# Altium schematic symbol library MCU GOST.SchLib: 19 symbols
Pins are listed as number, name and electrical type; pins without a type are passive.

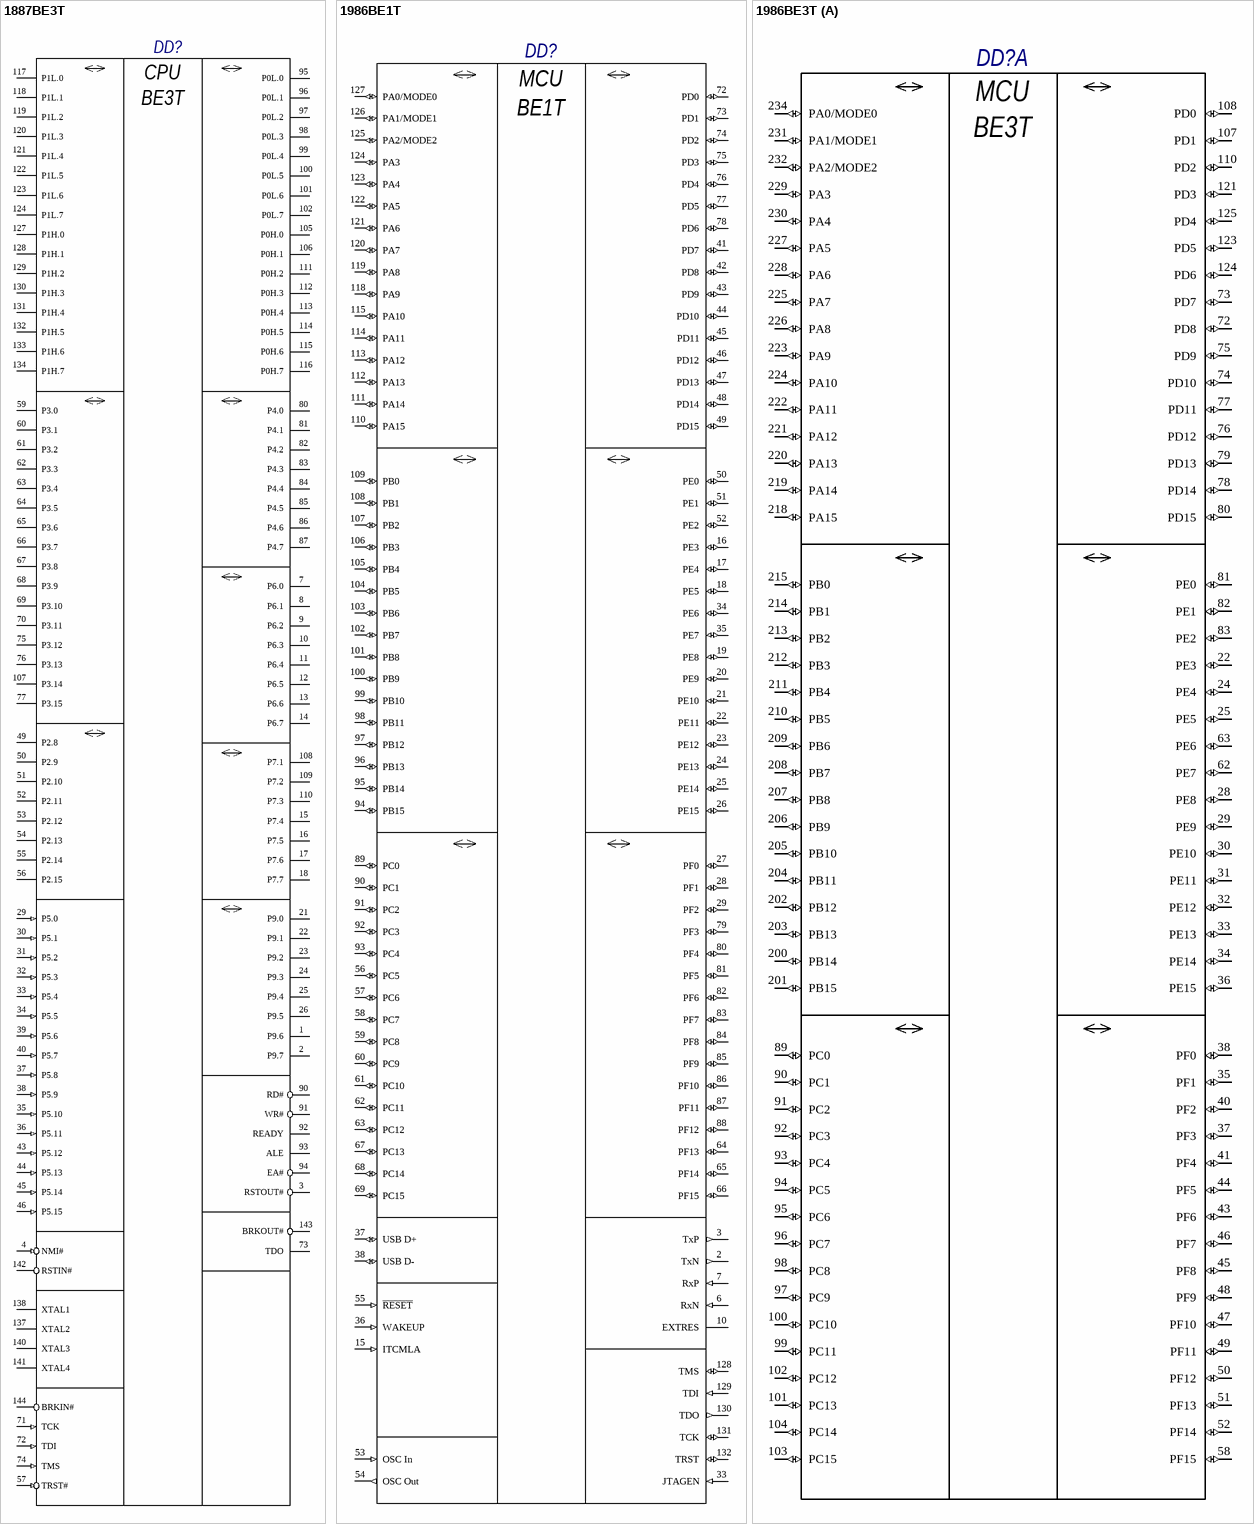
[diagram p0: symbols 1887ВЕ3Т to 1986ВЕ3Т]

## 1887ВЕ3Т
designator DD?
Type: Микросхема; Publisher: Viktor Klishin
pins: 1 P9.6 (hiz), 2 P9.7 (hiz), 3 RSTOUT# (hiz), 4 NMI# (in), 5 0V1 (power) hidden, 6 VCC1 (power) hidden, 7 P6.0 (hiz), 8 P6.1 (hiz), 9 P6.2 (hiz), 10 P6.3 (hiz), 11 P6.4 (hiz), 12 P6.5 (hiz), 13 P6.6 (hiz), 14 P6.7 (hiz), 15 P7.4 (hiz), 16 P7.5 (hiz), 17 P7.6 (hiz), 18 P7.7 (hiz), 19 0V1 (power) hidden, 20 VCC1 (power) hidden, 21 P9.0 (hiz), 22 P9.1 (hiz), 23 P9.2 (hiz), 24 P9.3 (hiz), 25 P9.4 (hiz), 26 P9.5 (hiz), 27 0V1 (power) hidden, 28 VCC1 (power) hidden, 29 P5.0 (in), 30 P5.1 (in), 31 P5.2 (in), 32 P5.3 (in), 33 P5.4 (in), 34 P5.5 (in), 35 P5.10 (in), 36 P5.11 (in), 37 P5.8 (in), 38 P5.9 (in), 39 P5.6 (in), 40 P5.7 (in), 41 VCC3 (power) hidden, 42 0V3 (power) hidden, 43 P5.12 (in), 44 P5.13 (in), 45 P5.14 (in), 46 P5.15 (in), 47 0V2 (power) hidden, 48 VCC2 (power) hidden, 49 P2.8 (hiz), 50 P2.9 (hiz), 51 P2.10 (hiz), 52 P2.11 (hiz), 53 P2.12 (hiz), 54 P2.13 (hiz), 55 P2.14 (hiz), 56 P2.15 (hiz), 57 TRST# (in), 58 VCC1 (power) hidden, 59 P3.0 (hiz), 60 P3.1 (hiz), 61 P3.2 (hiz), 62 P3.3 (hiz), 63 P3.4 (hiz), 64 P3.5 (hiz), 65 P3.6 (hiz), 66 P3.7 (hiz), 67 P3.8 (hiz), 68 P3.9 (hiz), 69 P3.10 (hiz), 70 P3.11 (hiz), 71 TCK (in), 72 TDI (in), 73 TDO (hiz), 74 TMS (in), 75 P3.12 (hiz), 76 P3.13 (hiz), 77 P3.15 (hiz), 78 VCC2 (power) hidden, 79 0V2 (power) hidden, 80 P4.0 (hiz), 81 P4.1 (hiz), 82 P4.2 (hiz), 83 P4.3 (hiz), 84 P4.4 (hiz), 85 P4.5 (hiz), 86 P4.6 (hiz), 87 P4.7 (hiz), 88 VCC1 (power) hidden, 89 0V1 (power) hidden, 90 RD# (hiz), 91 WR# (hiz), 92 READY (hiz), 93 ALE (hiz), 94 EA# (hiz), 95 P0L.0 (hiz), 96 P0L.1 (hiz), 97 P0L.2 (hiz), 98 P0L.3 (hiz), 99 P0L.4 (hiz), 100 P0L.5 (hiz), 101 P0L.6 (hiz), 102 P0L.7 (hiz), 103 VCC1 (power) hidden, 104 0V1 (power) hidden, 105 P0H.0 (hiz), 106 P0H.1 (hiz), 107 P3.14 (hiz), 108 P7.1 (hiz), 109 P7.2 (hiz), 110 P7.3 (hiz), 111 P0H.2 (hiz), 112 P0H.3 (hiz), 113 P0H.4 (hiz), 114 P0H.5 (hiz), 115 P0H.6 (hiz), 116 P0H.7 (hiz), 117 P1L.0 (hiz), 118 P1L.1 (hiz), 119 P1L.2 (hiz), 120 P1L.3 (hiz), 121 P1L.4 (hiz), 122 P1L.5 (hiz), 123 P1L.6 (hiz), 124 P1L.7 (hiz), 125 VCC1 (power) hidden, 126 0V1 (power) hidden, 127 P1H.0 (hiz), 128 P1H.1 (hiz), 129 P1H.2 (hiz), 130 P1H.3 (hiz), 131 P1H.4 (hiz), 132 P1H.5 (hiz), 133 P1H.6 (hiz), 134 P1H.7 (hiz), 135 VCC2 (power) hidden, 136 0V2 (power) hidden, 137 XTAL2 (hiz), 138 XTAL1 (hiz), 139 0V2 (power) hidden, 140 XTAL3 (hiz), 141 XTAL4 (hiz), 142 RSTIN# (hiz), 143 BRKOUT# (hiz), 144 BRKIN# (hiz)
text: CPU; ВЕ3Т

## 1986ВЕ1Т
designator DD?
32-разрядный RISC-микроконтроллер для авиационных применений; Type: Микросхема; Published: 06.12.2013; Publisher: Andrew Danich
pins: 1 GND0A (power) hidden to Общ "Общий PHY", 2 TxN (out) "PHY Ethernet", 3 TxP (out) "PHY Ethernet", 4 GND1A (power) hidden to Общ "Общий PHY", 5 Vcc1A (power) hidden "Аналоговое питание PHY +3.3В", 6 RxN (in) "PHY Ethernet", 7 RxP (in) "PHY Ethernet", 8 Vcc2A (power) hidden "Аналоговое питание PHY +3.3В", 9 GND2A (power) hidden to Общ "Общий PHY", 10 EXTRES "PHY Ethernet", 11 GND3A (power) hidden to Общ "Общий PHY", 12 Vcc3A (power) hidden "Аналоговое питание PHY +3.3В", 13 GND4A (power) hidden to Общ "Общий PHY", 14 Vcc4A (power) hidden "Аналоговое питание PHY +3.3В", 15 ITCMLA (in), 16 PE3 (io), 17 PE4 (io), 18 PE5 (io), 19 PE8 (io), 20 PE9 (io), 21 PE10 (io), 22 PE11 (io), 23 PE12 (io), 24 PE13 (io), 25 PE14 (io), 26 PE15 (io), 27 PF0 (io), 28 PF1 (io), 29 PF2 (io), 30 GND (power) hidden to Общ "Общий", 31 Vcc (power) hidden to +3.3В "Питание +3.3В", 32 BVcc (power) hidden to +3.3В "Батарейное Питание", 33 JTAGEN (in) "JTAG", 34 PE6 (io), 35 PE7 (io), 36 WAKEUP (in), 37 USB D+ (io) "USB", 38 USB D- (io) "USB", 39 AGND (power) hidden to Общ "Общий АЦП", 40 AVcc (power) hidden to +3.3В "Аналоговое питание АЦП и ЦАП", 41 PD7 (io), 42 PD8 (io), 43 PD9 (io), 44 PD10 (io), 45 PD11 (io), 46 PD12 (io), 47 PD13 (io), 48 PD14 (io), 49 PD15 (io), 50 PE0 (io), 51 PE1 (io), 52 PE2 (io), 53 OSC In (in), 54 OSC Out (out), 55 ~{RESET} (in), 56 PC5 (io), 57 PC6 (io), 58 PC7 (io), 59 PC8 (io), 60 PC9 (io), 61 PC10 (io), 62 PC11 (io), 63 PC12 (io), 64 PF13 (io), 65 PF14 (io), 66 PF15 (io), 67 PC13 (io), 68 PC14 (io), 69 PC15 (io), 70 GND (power) hidden to Общ "Общий", 71 Vcc (power) hidden to +3.3В "Питание +3.3В", 72 PD0 (io), 73 PD1 (io), 74 PD2 (io), 75 PD3 (io), 76 PD4 (io), 77 PD5 (io), 78 PD6 (io), 79 PF3 (io), 80 PF4 (io), 81 PF5 (io), 82 PF6 (io), 83 PF7 (io), 84 PF8 (io), 85 PF9 (io), 86 PF10 (io), 87 PF11 (io), 88 PF12 (io), 89 PC0 (io), 90 PC1 (io), 91 PC2 (io), 92 PC3 (io), 93 PC4 (io), 94 PB15 (io), 95 PB14 (io), 96 PB13 (io), 97 PB12 (io), 98 PB11 (io), 99 PB10 (io), 100 PB9 (io), 101 PB8 (io), 102 PB7 (io), 103 PB6 (io), 104 PB5 (io), 105 PB4 (io), 106 PB3 (io), 107 PB2 (io), 108 PB1 (io), 109 PB0 (io), 110 PA15 (io), 111 PA14 (io), 112 PA13 (io), 113 PA12 (io), 114 PA11 (io), 115 PA10 (io), 116 GND (power) hidden to Общ "Общий", 117 Vcc (power) hidden to +3.3В "Питание +3.3В", 118 PA9 (io), 119 PA8 (io), 120 PA7 (io), 121 PA6 (io), 122 PA5 (io), 123 PA4 (io), 124 PA3 (io), 125 PA2/MODE2 (io), 126 PA1/MODE1 (io), 127 PA0/MODE0 (io), 128 TMS (io) "JTAG", 129 TDI (in) "JTAG", 130 TDO (out) "JTAG", 131 TCK (io) "JTAG", 132 TRST (io) "JTAG"
text: MCU; ВЕ1Т

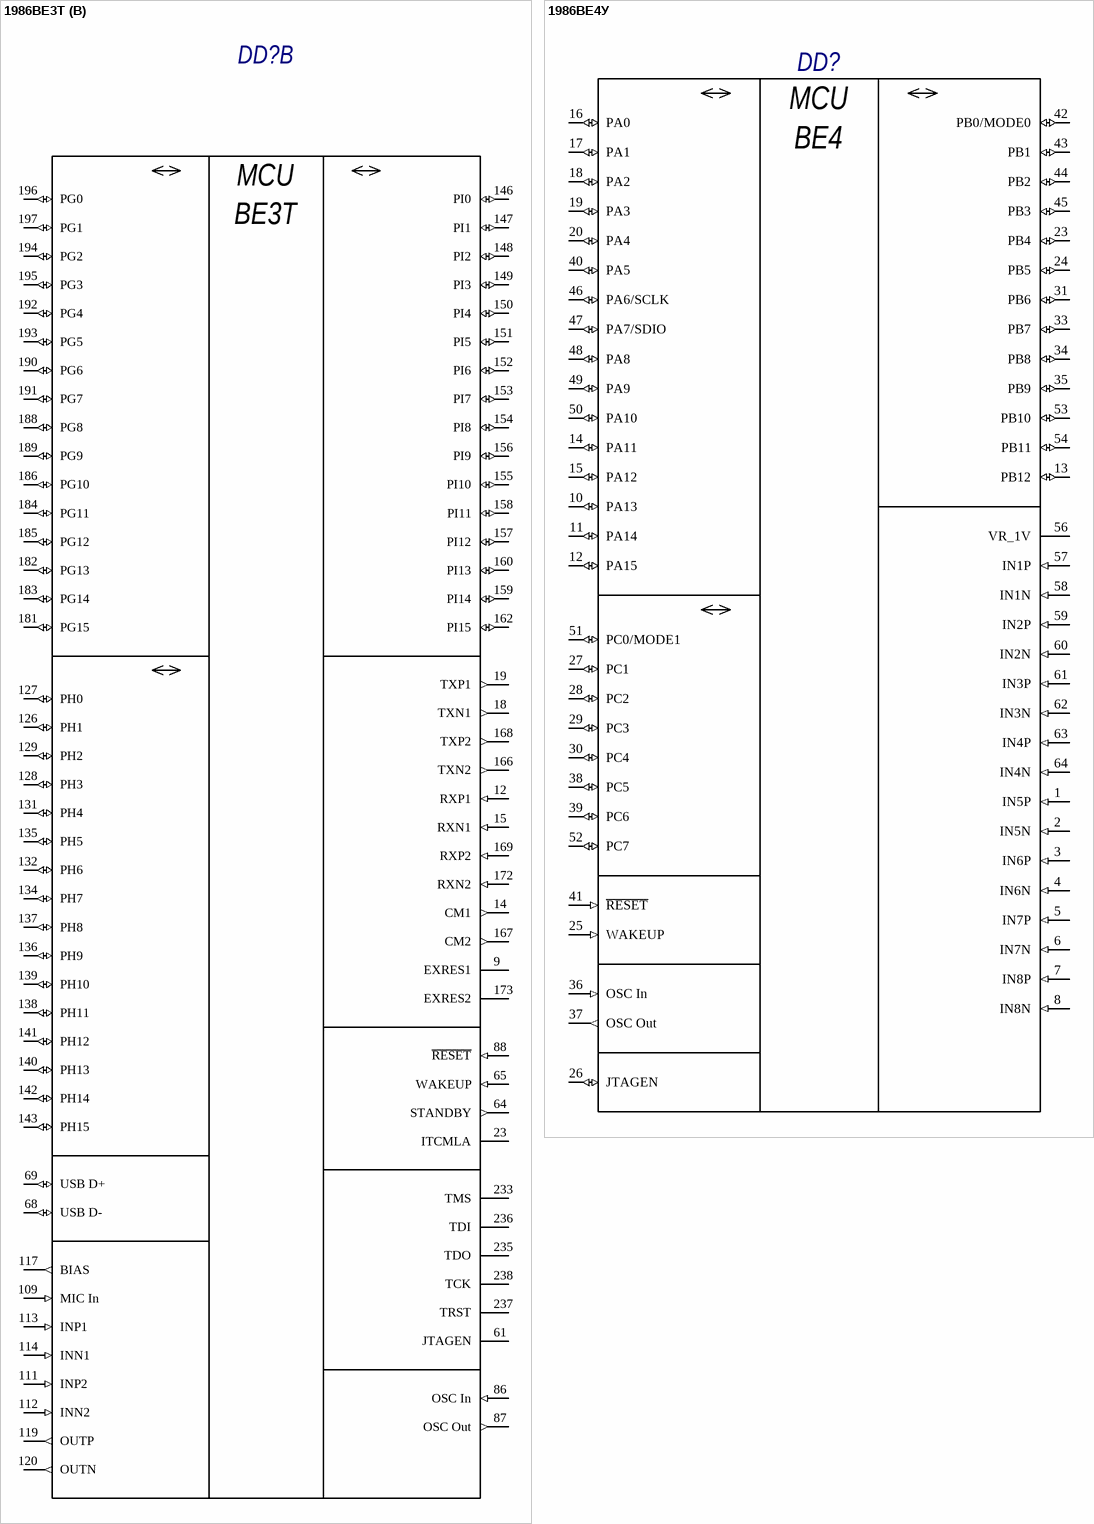
[diagram p1: symbols 1986ВЕ3Т to 1986ВЕ4У]

## 1986ВЕ3Т
designator DD?
32-разрядный RISC-микроконтроллер; Type: Микросхема; Published: 15.10.2014; Publisher: Andrew Danich
part A pins: 1 GND (power) hidden to Общ "Общий", 3 Vcc1A (power) hidden "Аналоговое питание PHY1", 4 GND0A (power) hidden to Общ "Общий PHY1", 5 GND1A (power) hidden to Общ "Общий PHY1", 7 Vcc2A (power) hidden "Аналоговое питание PHY1", 8 Vcc3A (power) hidden "Аналоговое питание PHY1", 11 GND2A (power) hidden to Общ "Общий PHY1", 16 GND3A (power) hidden to Общ "Общий PHY1", 17 Vcc4A (power) hidden "Аналоговое питание PHY1", 21 GND4A (power) hidden to Общ "Общий PHY1", 22 PE3 (io), 24 PE4 (io), 25 PE5 (io), 26 GND (power) hidden to Общ "Общий", 27 Vcc (power) hidden to +3.3В "Питание +3.3В", 28 PE8 (io), 29 PE9 (io), 30 PE10 (io), 31 PE11 (io), 32 PE12 (io), 33 PE13 (io), 34 PE14 (io), 35 PF1 (io), 36 PE15 (io), 37 PF3 (io), 38 PF0 (io), 39 GND (power) hidden to Общ "Общий", 40 PF2 (io), 41 PF4 (io), 42 Vcc (power) hidden to +3.3В "Питание +3.3В", 43 PF6 (io), 44 PF5 (io), 45 PF8 (io), 46 PF7 (io), 47 PF10 (io), 48 PF9 (io), 49 PF11 (io), 50 PF12 (io), 51 PF13 (io), 52 PF14 (io), 53 GND (power) hidden to Общ "Общий", 57 Vcc (power) hidden to +3.3В "Питание +3.3В", 58 PF15 (io), 59 BVcc (power) hidden to +3.3В "Батарейное Питание", 62 PE7 (io), 63 PE6 (io), 70 AVcc (power) hidden to +3.3В "Аналоговое питание АЦП и ЦАП", 71 AGND (power) hidden to Общ "Общий АЦП, ЦАП", 72 PD8 (io), 73 PD7 (io), 74 PD10 (io), 75 PD9 (io), 76 PD12 (io), 77 PD11 (io), 78 PD14 (io), 79 PD13 (io), 80 PD15 (io), 81 PE0 (io), 82 PE1 (io), 83 PE2 (io), 84 GND (power) hidden to Общ "Общий", 85 Vcc (power) hidden to +3.3В "Питание +3.3В", 89 PC0 (io), 90 PC1 (io), 91 PC2 (io), 92 PC3 (io), 93 PC4 (io), 94 PC5 (io), 95 PC6 (io), 96 PC7 (io), 97 PC9 (io), 98 PC8 (io), 99 PC11 (io), 100 PC10 (io), 101 PC13 (io), 102 PC12 (io), 103 PC15 (io), 104 PC14 (io), 105 Vcc (power) hidden to +3.3В "Питание +3.3В", 106 GND (power) hidden to Общ "Общий", 107 PD1 (io), 108 PD0 (io), 110 PD2 (io), 116 AGND1 (power) hidden to Общ "Общий аудиокодека", 118 AVcc1 (power) hidden to +3.3В "Аналоговое питание аудиокодека", 121 PD3 (io), 123 PD5 (io), 124 PD6 (io), 125 PD4 (io), 130 GND (power) hidden to Общ "Общий", 133 Vcc (power) hidden to +3.3В "Питание +3.3В", 144 GND (power) hidden to Общ "Общий", 145 Vcc (power) hidden to +3.3В "Питание +3.3В", 161 GND (power) hidden to Общ "Общий", 163 GND0B (power) hidden to Общ "Общий PHY2", 164 Vcc (power) hidden to +3.3В "Питание +3.3В", 165 GND1B (power) hidden to Общ "Общий PHY2", 170 Vcc1B (power) hidden "Аналоговое питание PHY2", 171 Vcc2B (power) hidden "Аналоговое питание PHY2", 175 Vcc3B (power) hidden "Аналоговое питание PHY2", 176 GND2B (power) hidden to Общ "Общий PHY2", 177 GND3B (power) hidden to Общ "Общий PHY2", 178 GND4B (power) hidden to Общ "Общий PHY2", 179 Vcc4B (power) hidden "Аналоговое питание PHY2", 198 Vcc (power) hidden to +3.3В "Питание +3.3В", 199 GND (power) hidden to Общ "Общий", 200 PB14 (io), 201 PB15 (io), 202 PB12 (io), 203 PB13 (io), 204 PB11 (io), 205 PB10 (io), 206 PB9 (io), 207 PB8 (io), 208 PB7 (io), 209 PB6 (io), 210 PB5 (io), 211 PB4 (io), 212 PB3 (io), 213 PB2 (io), 214 PB1 (io), 215 PB0 (io), 216 GND (power) hidden to Общ "Общий", 217 Vcc (power) hidden to +3.3В "Питание +3.3В", 218 PA15 (io), 219 PA14 (io), 220 PA13 (io), 221 PA12 (io), 222 PA11 (io), 223 PA9 (io), 224 PA10 (io), 225 PA7 (io), 226 PA8 (io), 227 PA5 (io), 228 PA6 (io), 229 PA3 (io), 230 PA4 (io), 231 PA1/MODE1 (io), 232 PA2/MODE2 (io), 234 PA0/MODE0 (io), 239 Vcc (power) hidden to +3.3В "Питание +3.3В", 240 GND (power) hidden to Общ "Общий"
part B pins: 9 EXRES1 "PHY Ethernet", 12 RXP1 (in) "PHY Ethernet", 14 CM1 (out) "PHY Ethernet", 15 RXN1 (in) "PHY Ethernet", 18 TXN1 (out) "PHY Ethernet", 19 TXP1 (out) "PHY Ethernet", 23 ITCMLA, 61 JTAGEN "JTAG", 64 STANDBY (out), 65 WAKEUP (in), 68 USB D- (io) "USB", 69 USB D+ (io) "USB", 86 OSC In (in), 87 OSC Out (out), 88 ~{RESET} (in), 109 MIC In (in) "Audio", 111 INP2 (in) "Audio", 112 INN2 (in) "Audio", 113 INP1 (in) "Audio", 114 INN1 (in) "Audio", 117 BIAS (out) "Audio", 119 OUTP (out) "Audio", 120 OUTN (out) "Audio", 126 PH1 (io), 127 PH0 (io), 128 PH3 (io), 129 PH2 (io), 131 PH4 (io), 132 PH6 (io), 134 PH7 (io), 135 PH5 (io), 136 PH9 (io), 137 PH8 (io), 138 PH11 (io), 139 PH10 (io), 140 PH13 (io), 141 PH12 (io), 142 PH14 (io), 143 PH15 (io), 146 PI0 (io), 147 PI1 (io), 148 PI2 (io), 149 PI3 (io), 150 PI4 (io), 151 PI5 (io), 152 PI6 (io), 153 PI7 (io), 154 PI8 (io), 155 PI10 (io), 156 PI9 (io), 157 PI12 (io), 158 PI11 (io), 159 PI14 (io), 160 PI13 (io), 162 PI15 (io), 166 TXN2 (out) "PHY Ethernet", 167 CM2 (out) "PHY Ethernet", 168 TXP2 (out) "PHY Ethernet", 169 RXP2 (in) "PHY Ethernet", 172 RXN2 (in) "PHY Ethernet", 173 EXRES2 "PHY Ethernet", 181 PG15 (io), 182 PG13 (io), 183 PG14 (io), 184 PG11 (io), 185 PG12 (io), 186 PG10 (io), 188 PG8 (io), 189 PG9 (io), 190 PG6 (io), 191 PG7 (io), 192 PG4 (io), 193 PG5 (io), 194 PG2 (io), 195 PG3 (io), 196 PG0 (io), 197 PG1 (io), 233 TMS "JTAG", 235 TDO "JTAG", 236 TDI "JTAG", 237 TRST "JTAG", 238 TCK "JTAG"
part A text: MCU; ВЕ3Т
part B text: MCU; ВЕ3Т

## 1986ВЕ4У
designator DD?
Type: Микросхема; Published: 14.01.2015; Publisher: Andrew Danich
pins: 1 IN5P (in), 2 IN5N (in), 3 IN6P (in), 4 IN6N (in), 5 IN7P (in), 6 IN7N (in), 7 IN8P (in), 8 IN8N (in), 9 AVcc (power) hidden to +3.3В "Аналоговое питание АЦП и ЦАП", 10 PA13 (io), 11 PA14 (io), 12 PA15 (io), 13 PB12 (io), 14 PA11 (io), 15 PA12 (io), 16 PA0 (io), 17 PA1 (io), 18 PA2 (io), 19 PA3 (io), 20 PA4 (io), 21 Vcc (power) hidden to +3.3В "Питание", 22 BVcc (power) hidden to +3.3В "Батарейное Питание", 23 PB4 (io), 24 PB5 (io), 25 WAKEUP (in), 26 JTAGEN (io), 27 PC1 (io), 28 PC2 (io), 29 PC3 (io), 30 PC4 (io), 31 PB6 (io), 32 GND (power) hidden to Общ "Общий", 33 PB7 (io), 34 PB8 (io), 35 PB9 (io), 36 OSC In (in), 37 OSC Out (out), 38 PC5 (io), 39 PC6 (io), 40 PA5 (io), 41 ~{RESET} (in), 42 PB0/MODE0 (io), 43 PB1 (io), 44 PB2 (io), 45 PB3 (io), 46 PA6/SCLK (io), 47 PA7/SDIO (io), 48 PA8 (io), 49 PA9 (io), 50 PA10 (io), 51 PC0/MODE1 (io), 52 PC7 (io), 53 PB10 (io), 54 PB11 (io), 55 AGND (power) hidden to Общ "Общий АЦП", 56 VR_1V, 57 IN1P (in), 58 IN1N (in), 59 IN2P (in), 60 IN2N (in), 61 IN3P (in), 62 IN3N (in), 63 IN4P (in), 64 IN4N (in)
text: MCU; ВЕ4

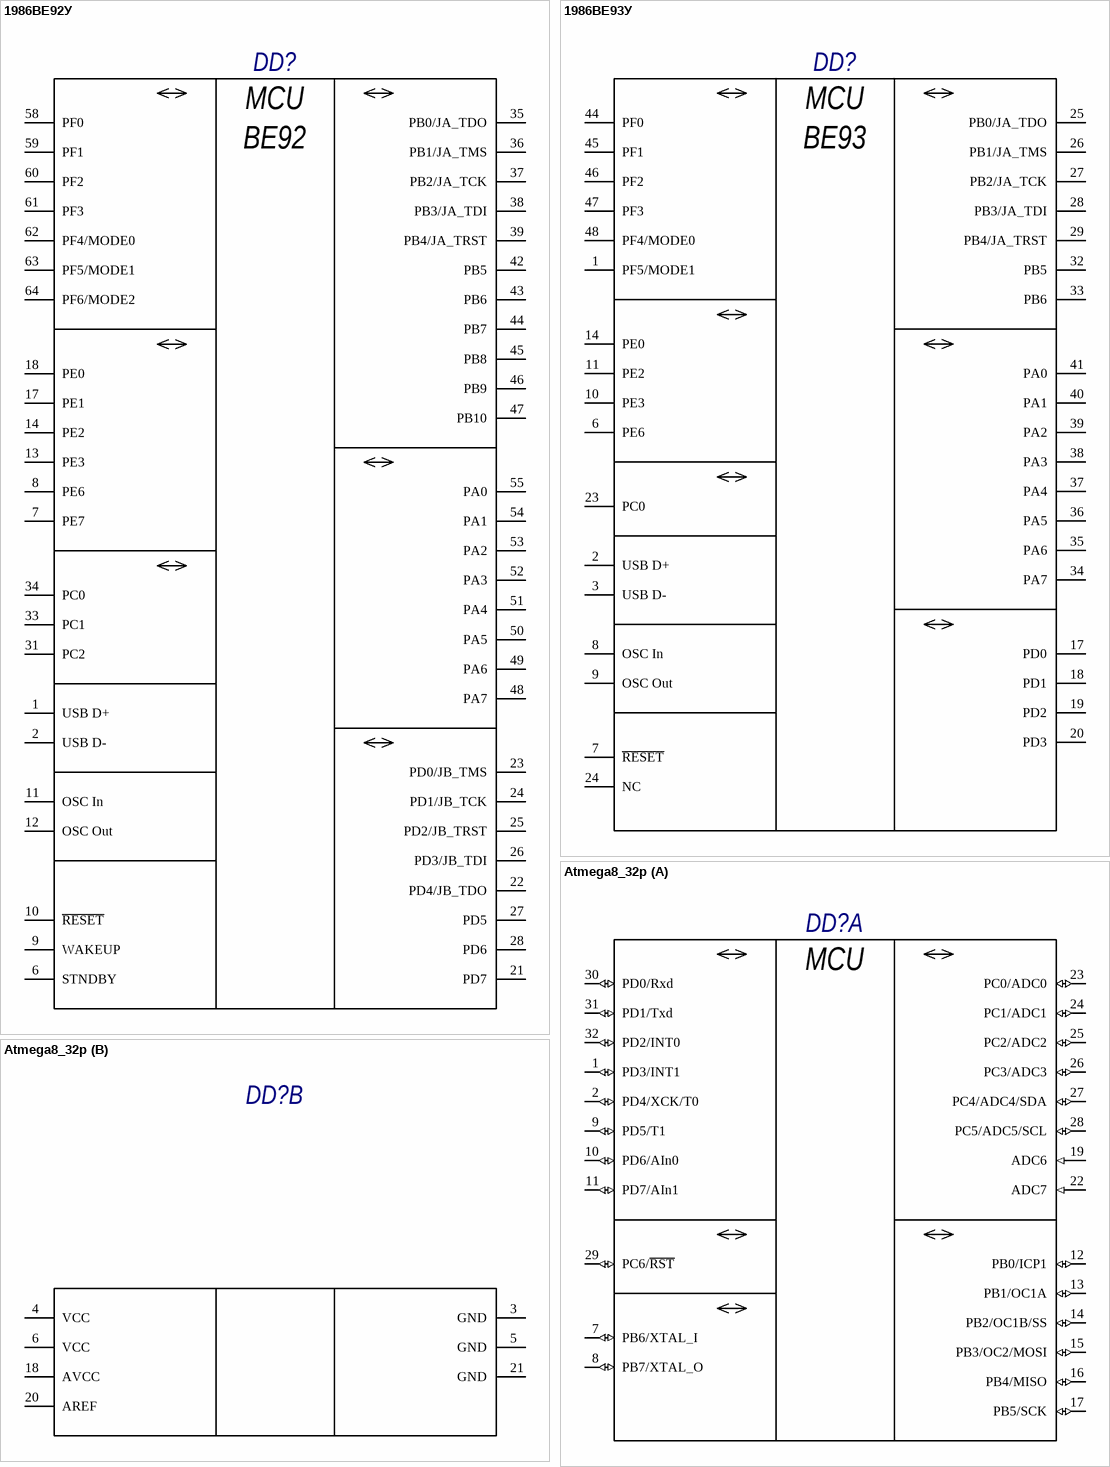
[diagram p2: symbols 1986ВЕ92У to Atmega8_32p]

## 1986ВЕ92У
designator DD?
32-разрядный RISC микроконтроллер; Type: Микросхема; Published: 06.12.2013; Publisher: Andrew Danich
pins: 1 USB D+, 2 USB D-, 3 GND (power) hidden to Общ "Общий", 4 Vcc (power) hidden to +3.3В "Питание", 5 BVcc (power) hidden to +3.3В "Батарейное Питание", 6 STNDBY, 7 PE7, 8 PE6, 9 WAKEUP, 10 ~{RESET}, 11 OSC In, 12 OSC Out, 13 PE3, 14 PE2, 15 AGND1 (power) hidden to Общ "Общий АЦП", 16 AVcc1 (power) hidden to +3.3В "Аналоговое питание АЦП и ЦАП", 17 PE1, 18 PE0, 19 AGND (power) hidden to Общ "Общий АЦП", 20 AVcc (power) hidden to +3.3В "Аналоговое питание АЦП и ЦАП", 21 PD7, 22 PD4/JB_TDO, 23 PD0/JB_TMS, 24 PD1/JB_TCK, 25 PD2/JB_TRST, 26 PD3/JB_TDI, 27 PD5, 28 PD6, 29 Vcc (power) hidden to +3.3В "Питание", 30 GND (power) hidden to Общ "Общий", 31 PC2, 33 PC1, 34 PC0, 35 PB0/JA_TDO, 36 PB1/JA_TMS, 37 PB2/JA_TCK, 38 PB3/JA_TDI, 39 PB4/JA_TRST, 40 Vcc (power) hidden to +3.3В "Питание", 41 GND (power) hidden to Общ "Общий", 42 PB5, 43 PB6, 44 PB7, 45 PB8, 46 PB9, 47 PB10, 48 PA7, 49 PA6, 50 PA5, 51 PA4, 52 PA3, 53 PA2, 54 PA1, 55 PA0, 56 GND (power) hidden to Общ "Общий", 57 Vcc (power) hidden to +3.3В "Питание", 58 PF0, 59 PF1, 60 PF2, 61 PF3, 62 PF4/MODE0, 63 PF5/MODE1, 64 PF6/MODE2
text: MCU; ВЕ92

## 1986ВЕ93У
designator DD?
32-разрядный RISC микроконтроллер; Type: Микросхема; Published: 15.10.2014; Publisher: Andrew Danich
pins: 1 PF5/MODE1, 2 USB D+, 3 USB D-, 4 GND (power) hidden to Общ "Общий", 5 Vcc (power) hidden to +3.3В "Питание", 6 PE6, 7 ~{RESET}, 8 OSC In, 9 OSC Out, 10 PE3, 11 PE2, 12 AGND1 (power) hidden to Общ "Общий АЦП", 13 AVcc1 (power) hidden to +3.3В "Аналоговое питание АЦП и ЦАП", 14 PE0, 15 AGND (power) hidden to Общ "Общий АЦП", 16 AVcc (power) hidden to +3.3В "Аналоговое питание АЦП и ЦАП", 17 PD0, 18 PD1, 19 PD2, 20 PD3, 21 Vcc (power) hidden to +3.3В "Питание", 22 GND (power) hidden to Общ "Общий", 23 PC0, 24 NC "Не используются", 25 PB0/JA_TDO, 26 PB1/JA_TMS, 27 PB2/JA_TCK, 28 PB3/JA_TDI, 29 PB4/JA_TRST, 30 Vcc (power) hidden to +3.3В "Питание", 31 GND (power) hidden to Общ "Общий", 32 PB5, 33 PB6, 34 PA7, 35 PA6, 36 PA5, 37 PA4, 38 PA3, 39 PA2, 40 PA1, 41 PA0, 42 GND (power) hidden to Общ "Общий", 43 Vcc (power) hidden to +3.3В, 44 PF0, 45 PF1, 46 PF2, 47 PF3, 48 PF4/MODE0
text: MCU; ВЕ93

## Atmega8_32p
designator DD?
8-bit MCU with 8K Bytes ISP Flash; Value: Atmega8; Published: 18.08.2012; Publisher: Andrew Danich; Type: Микроконтроллер
part A pins: 1 PD3/INT1 (io), 2 PD4/XCK/T0 (io), 7 PB6/XTAL_I (io), 8 PB7/XTAL_O (io), 9 PD5/T1 (io), 10 PD6/AIn0 (io), 11 PD7/AIn1 (io), 12 PB0/ICP1 (io), 13 PB1/OC1A (io), 14 PB2/OC1B/SS (io), 15 PB3/OC2/MOSI (io), 16 PB4/MISO (io), 17 PB5/SCK (io), 19 ADC6 (in), 22 ADC7 (in), 23 PC0/ADC0 (io), 24 PC1/ADC1 (io), 25 PC2/ADC2 (io), 26 PC3/ADC3 (io), 27 PC4/ADC4/SDA (io), 28 PC5/ADC5/SCL (io), 29 PC6/~{RST} (io), 30 PD0/Rxd (io), 31 PD1/Txd (io), 32 PD2/INT0 (io)
part B pins: 3 GND (power), 4 VCC (power), 5 GND (power), 6 VCC (power), 18 AVCC (power), 20 AREF (power), 21 GND (power)
part A text: MCU

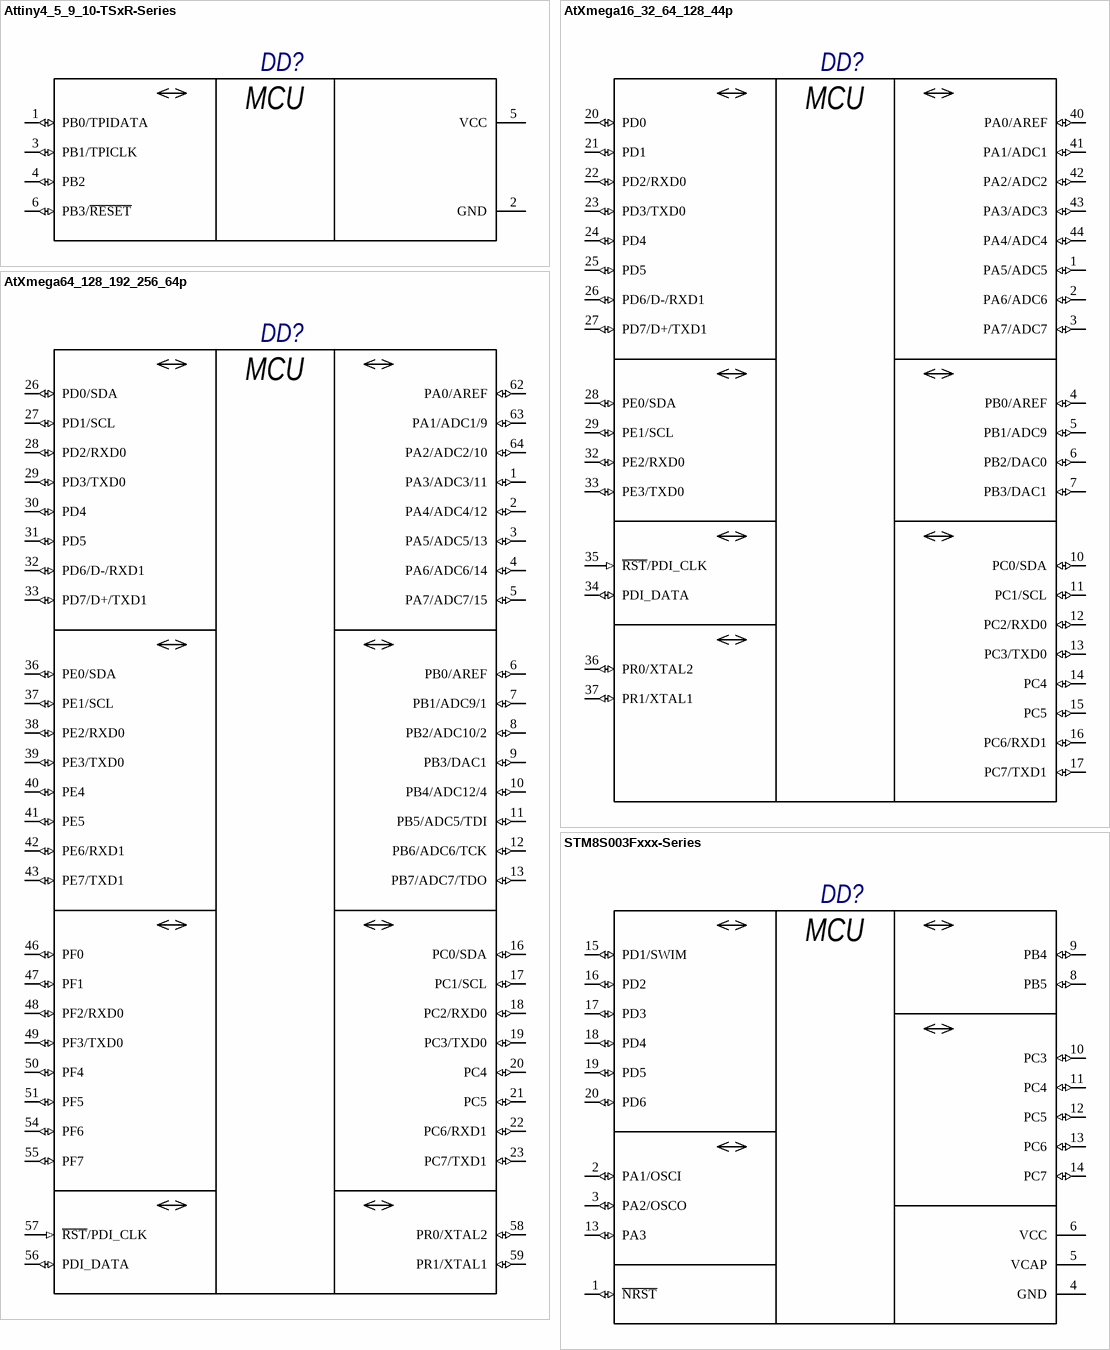
[diagram p3: symbols Attiny4_5_9_10-TSxR-Series to STM8S003Fxxx-Series]

## Attiny4_5_9_10-TSxR-Series
designator DD?
Published: 18.08.2012; Publisher: Andrew Danich; Type: Микроконтроллер
pins: 1 PB0/TPIDATA (io), 2 GND (power), 3 PB1/TPICLK (io), 4 PB2 (io), 5 VCC (power), 6 PB3/~{RESET} (io)
text: MCU

## AtXmega16_32_64_128_44p
designator DD?
Published: 27.07.2015; Publisher: Andrew Danich; Type: Микросхема
pins: 1 PA5/ADC5 (io), 2 PA6/ADC6 (io), 3 PA7/ADC7 (io), 4 PB0/AREF (io), 5 PB1/ADC9 (io), 6 PB2/DAC0 (io), 7 PB3/DAC1 (io), 8 GND (power) hidden to Общ, 9 Vcc (power) hidden to +3.3В, 10 PC0/SDA (io), 11 PC1/SCL (io), 12 PC2/RXD0 (io), 13 PC3/TXD0 (io), 14 PC4 (io), 15 PC5 (io), 16 PC6/RXD1 (io), 17 PC7/TXD1 (io), 18 GND (power) hidden to Общ, 19 Vcc (power) hidden to +3.3В, 20 PD0 (io), 21 PD1 (io), 22 PD2/RXD0 (io), 23 PD3/TXD0 (io), 24 PD4 (io), 25 PD5 (io), 26 PD6/D-/RXD1 (io), 27 PD7/D+/TXD1 (io), 28 PE0/SDA (io), 29 PE1/SCL (io), 30 GND (power) hidden to Общ, 31 Vcc (power) hidden to +3.3В, 32 PE2/RXD0 (io), 33 PE3/TXD0 (io), 34 PDI_DATA (io), 35 ~{RST}/PDI_CLK (in), 36 PR0/XTAL2 (io), 37 PR1/XTAL1 (io), 38 GND (power) hidden to Общ, 39 AVcc (power) hidden to +3.3В, 40 PA0/AREF (io), 41 PA1/ADC1 (io), 42 PA2/ADC2 (io), 43 PA3/ADC3 (io), 44 PA4/ADC4 (io)
text: MCU

## AtXmega64_128_192_256_64p
designator DD?
Published: 27.07.2015; Publisher: Andrew Danich; Type: Микросхема
pins: 1 PA3/ADC3/11 (io), 2 PA4/ADC4/12 (io), 3 PA5/ADC5/13 (io), 4 PA6/ADC6/14 (io), 5 PA7/ADC7/15 (io), 6 PB0/AREF (io), 7 PB1/ADC9/1 (io), 8 PB2/ADC10/2 (io), 9 PB3/DAC1 (io), 10 PB4/ADC12/4 (io), 11 PB5/ADC5/TDI (io), 12 PB6/ADC6/TCK (io), 13 PB7/ADC7/TDO (io), 14 GND (power) hidden to Общ, 15 Vcc (power) hidden to +3.3В, 16 PC0/SDA (io), 17 PC1/SCL (io), 18 PC2/RXD0 (io), 19 PC3/TXD0 (io), 20 PC4 (io), 21 PC5 (io), 22 PC6/RXD1 (io), 23 PC7/TXD1 (io), 24 GND (power) hidden to Общ, 25 Vcc (power) hidden to +3.3В, 26 PD0/SDA (io), 27 PD1/SCL (io), 28 PD2/RXD0 (io), 29 PD3/TXD0 (io), 30 PD4 (io), 31 PD5 (io), 32 PD6/D-/RXD1 (io), 33 PD7/D+/TXD1 (io), 34 GND (power) hidden to Общ, 35 Vcc (power) hidden to +3.3В, 36 PE0/SDA (io), 37 PE1/SCL (io), 38 PE2/RXD0 (io), 39 PE3/TXD0 (io), 40 PE4 (io), 41 PE5 (io), 42 PE6/RXD1 (io), 43 PE7/TXD1 (io), 44 GND (power) hidden to Общ, 45 Vcc (power) hidden to +3.3В, 46 PF0 (io), 47 PF1 (io), 48 PF2/RXD0 (io), 49 PF3/TXD0 (io), 50 PF4 (io), 51 PF5 (io), 52 GND (power) hidden to Общ, 53 Vcc (power) hidden to +3.3В, 54 PF6 (io), 55 PF7 (io), 56 PDI_DATA (io), 57 ~{RST}/PDI_CLK (in), 58 PR0/XTAL2 (io), 59 PR1/XTAL1 (io), 60 GND (power) hidden to Общ, 61 AVcc (power) hidden to +3.3В, 62 PA0/AREF (io), 63 PA1/ADC1/9 (io), 64 PA2/ADC2/10 (io)
text: MCU

## STM8S003Fxxx-Series
designator DD?
Published: 27.07.2015; Publisher: Andrew Danich; Type: Микросхема
pins: 1 ~{NRST} (io), 2 PA1/OSCI (io), 3 PA2/OSCO (io), 4 GND (power), 5 VCAP (power), 6 VCC (power), 8 PB5 (io), 9 PB4 (io), 10 PC3 (io), 11 PC4 (io), 12 PC5 (io), 13 PC6 (io), 13 PA3 (io), 14 PC7 (io), 15 PD1/SWIM (io), 16 PD2 (io), 17 PD3 (io), 18 PD4 (io), 19 PD5 (io), 20 PD6 (io)
text: MCU

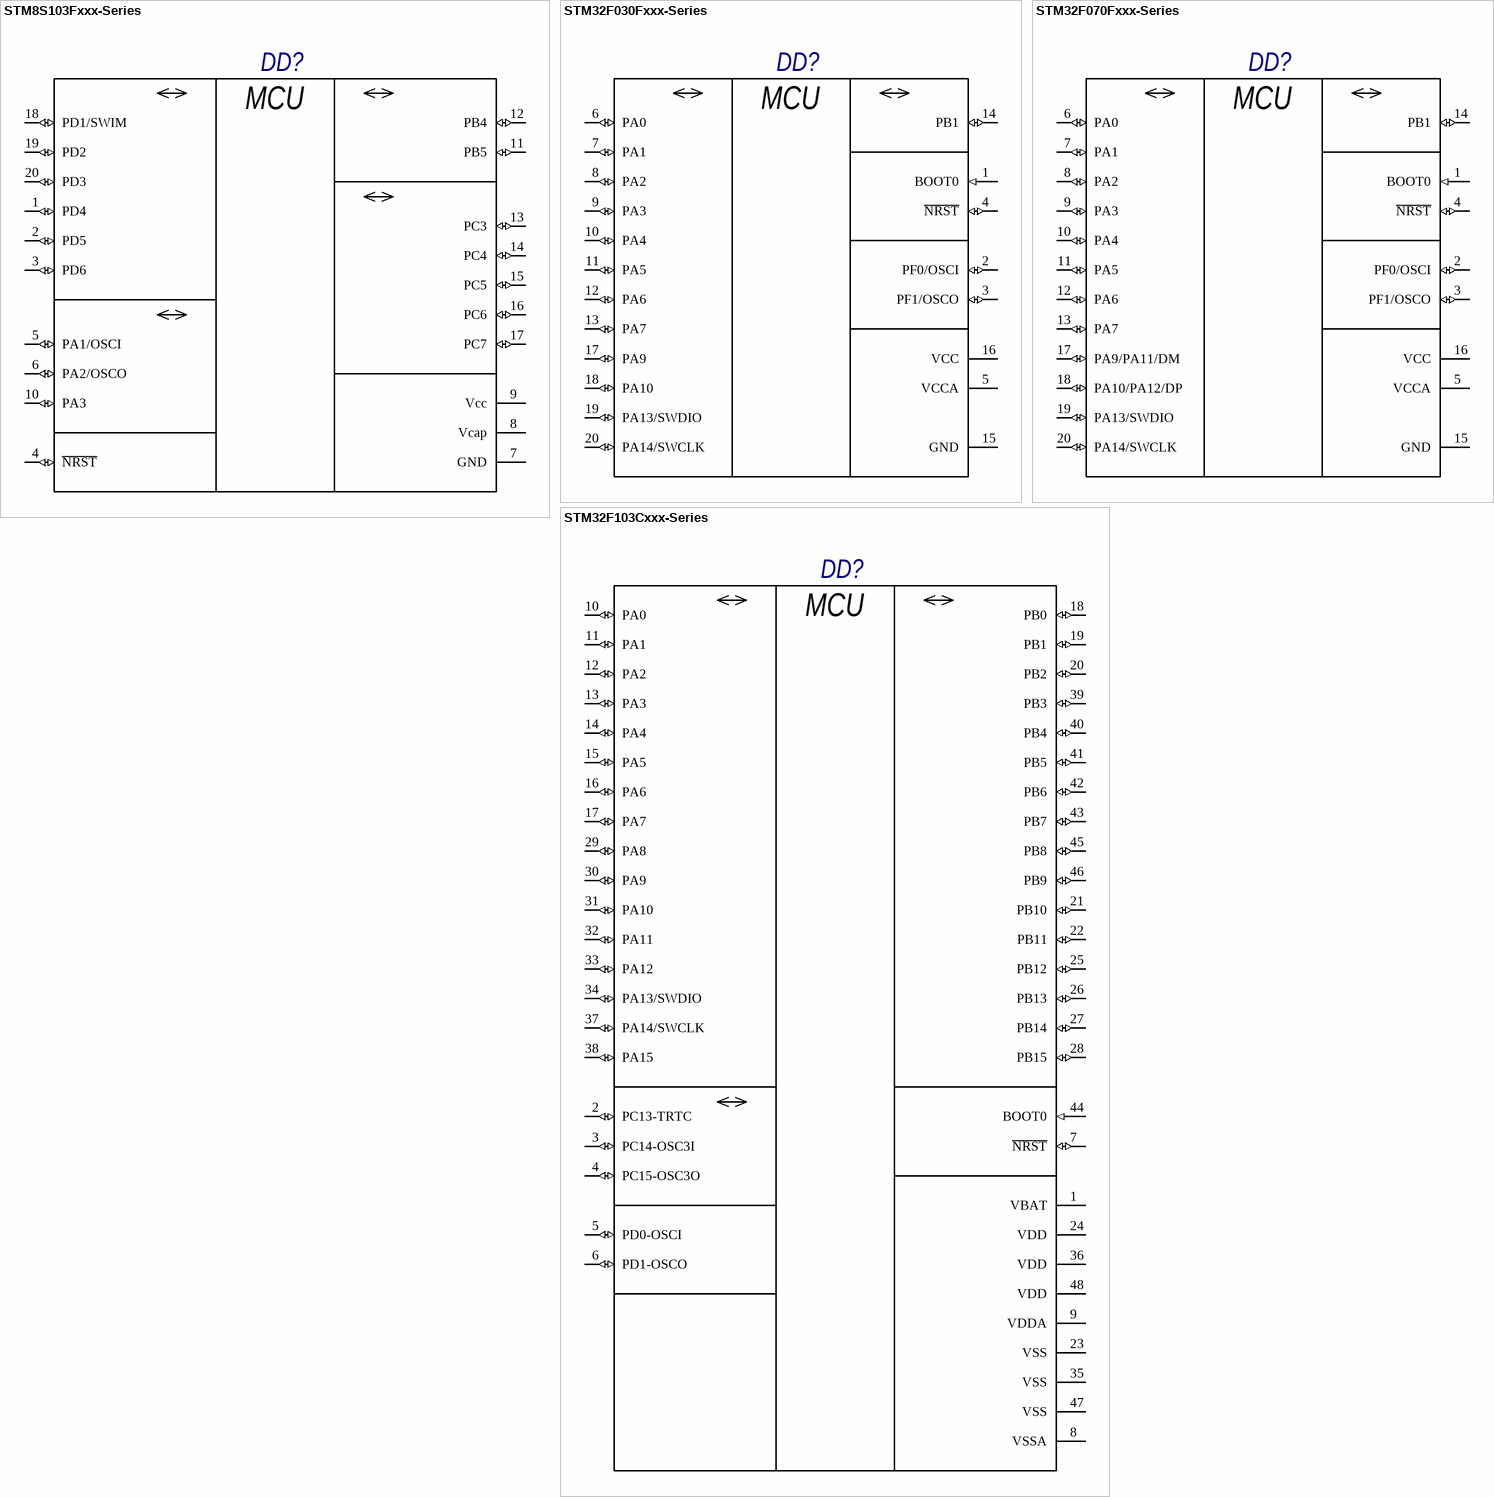
[diagram p4: symbols STM8S103Fxxx-Series to STM32F103Cxxx-Series]

## STM8S103Fxxx-Series
designator DD?
Published: 27.07.2015; Publisher: Andrew Danich; Type: Микросхема
pins: 1 PD4 (io), 2 PD5 (io), 3 PD6 (io), 4 ~{NRST} (io), 5 PA1/OSCI (io), 6 PA2/OSCO (io), 7 GND (power), 8 Vcap (power), 9 Vcc (power), 10 PA3 (io), 11 PB5 (io), 12 PB4 (io), 13 PC3 (io), 14 PC4 (io), 15 PC5 (io), 16 PC6 (io), 17 PC7 (io), 18 PD1/SWIM (io), 19 PD2 (io), 20 PD3 (io)
text: MCU

## STM32F030Fxxx-Series
designator DD?
Published: 27.07.2015; Publisher: Andrew Danich; Type: Микросхема
pins: 1 BOOT0 (in), 2 PF0/OSCI (io), 3 PF1/OSCO (io), 4 ~{NRST} (io), 5 VCCA (power), 6 PA0 (io), 7 PA1 (io), 8 PA2 (io), 9 PA3 (io), 10 PA4 (io), 11 PA5 (io), 12 PA6 (io), 13 PA7 (io), 14 PB1 (io), 15 GND (power), 16 VCC (power), 17 PA9 (io), 18 PA10 (io), 19 PA13/SWDIO (io), 20 PA14/SWCLK (io)
text: MCU

## STM32F070Fxxx-Series
designator DD?
Published: 02.02.2017; Publisher: Andrew Danich; Type: Микросхема
pins: 1 BOOT0 (in), 2 PF0/OSCI (io), 3 PF1/OSCO (io), 4 ~{NRST} (io), 5 VCCA (power), 6 PA0 (io), 7 PA1 (io), 8 PA2 (io), 9 PA3 (io), 10 PA4 (io), 11 PA5 (io), 12 PA6 (io), 13 PA7 (io), 14 PB1 (io), 15 GND (power), 16 VCC (power), 17 PA9/PA11/DM (io), 18 PA10/PA12/DP (io), 19 PA13/SWDIO (io), 20 PA14/SWCLK (io)
text: MCU

## STM32F103Cxxx-Series
designator DD?
Published: 16.10.2015; Publisher: Andrew Danich; Type: Микросхема
pins: 1 VBAT (power), 2 PC13-TRTC (io) "PC13-TAMPER-RTC/PC13/TAMPER-RTC", 3 PC14-OSC3I (io) "PC14-OSC32_IN/PC14/OSC32_IN", 4 PC15-OSC3O (io) "PC15-OSC32_OUT/PC15/OSC32_OUT", 5 PD0-OSCI (io) "PD0/OSC_IN", 6 PD1-OSCO (io) "PD1/OSC_OUT", 7 ~{NRST} (io) "NRST", 8 VSSA (power), 9 VDDA (power), 10 PA0 (io) "PA0-WKUP/PA0/WKUP/USART2_CTS/ADC12_IN0/TIM2_CH1_ETR", 11 PA1 (io) "PA1/USART2_RTS/ADC12_IN1/TIM2_CH2", 12 PA2 (io) "PA2/USART2_TX/ADC12_IN2/TIM2_CH3", 13 PA3 (io) "PA3/USART2_RX/ADC12_IN3/TIM2_CH4", 14 PA4 (io) "PA4/SPI1_NSS/USART2_CK/ADC12_IN4", 15 PA5 (io) "PA5/SPI1_SCK/ADC12_IN5", 16 PA6 (io) "PA6/SPI1_MISO/ADC12_IN6/TIM3_CH1/TIM1_BKIN", 17 PA7 (io) "PA7/SPI1_MOSI/ADC12_IN7/TIM3_CH2/TIM1_CH1N", 18 PB0 (io) "PB0/ADC12_IN8/TIM3_CH3/TIM1_CH2N", 19 PB1 (io) "PB1/ADC12_IN9/TIM3_CH4/TIM1_CH3N", 20 PB2 (io) "PB2/BOOT1", 21 PB10 (io) "PB10/I2C2_SCL/USART3_TX/TIM2_CH3", 22 PB11 (io) "PB11/I2C2_SDA/USART3_RX/TIM2_CH4", 23 VSS (power) "VSS_1", 24 VDD (power) "VDD_1", 25 PB12 (io) "PB12/SPI2_NSS/I2C2_SMBAl/USART3_CK/TIM1_BKIN", 26 PB13 (io) "PB13/SPI2_SCK/USART3_CTS/TIM1_CH1N", 27 PB14 (io) "PB14/SPI2_MISO/USART3_RTS/TIM1_CH2N", 28 PB15 (io) "PB15/SPI2_MOSI/TIM1_CH3N", 29 PA8 (io) "PA8/USART1_CK/TIM1_CH1/MCO", 30 PA9 (io) "PA9/USART1_TX/TIM1_CH2", 31 PA10 (io) "PA10/USART1_RX/TIM1_CH3", 32 PA11 (io) "PA11/USART1_CTS/CANRX/USBDM/TIM1_CH4", 33 PA12 (io) "PA12/USART1_RTS/CANTX/USBDP/TIM1_ETR", 34 PA13/SWDIO (io) "PA13/JTMS/SWDIO", 35 VSS (power) "VSS_2", 36 VDD (power) "VDD_2", 37 PA14/SWCLK (io) "PA14/JTCK/SWCLK", 38 PA15 (io) "PA15/JTDI/TIM2_CH1_ETR/SPI1_NSS", 39 PB3 (io) "PB3/JTDO/TIM2_CH2/TRACESWO/SPI1_SCK", 40 PB4 (io) "PB4/NJTRST/TIM3_CH1/SPI1_MISO", 41 PB5 (io) "PB5/I2C1_SMBAI/TIM3_CH2/SPI1_MOSI", 42 PB6 (io) "PB6/I2C1_SCL/TIM4_CH1/USART1_TX", 43 PB7 (io) "PB7/I2C1_SDA/TIM4_CH2/USART1_RX", 44 BOOT0 (in), 45 PB8 (io) "PB8/TIM4_CH3/I2C1_SCL/CANRX", 46 PB9 (io) "PB9/TIM4_CH4/I2C1_SDA/CANTX", 47 VSS (power) "VSS_3", 48 VDD (power) "VDD_3"
text: MCU

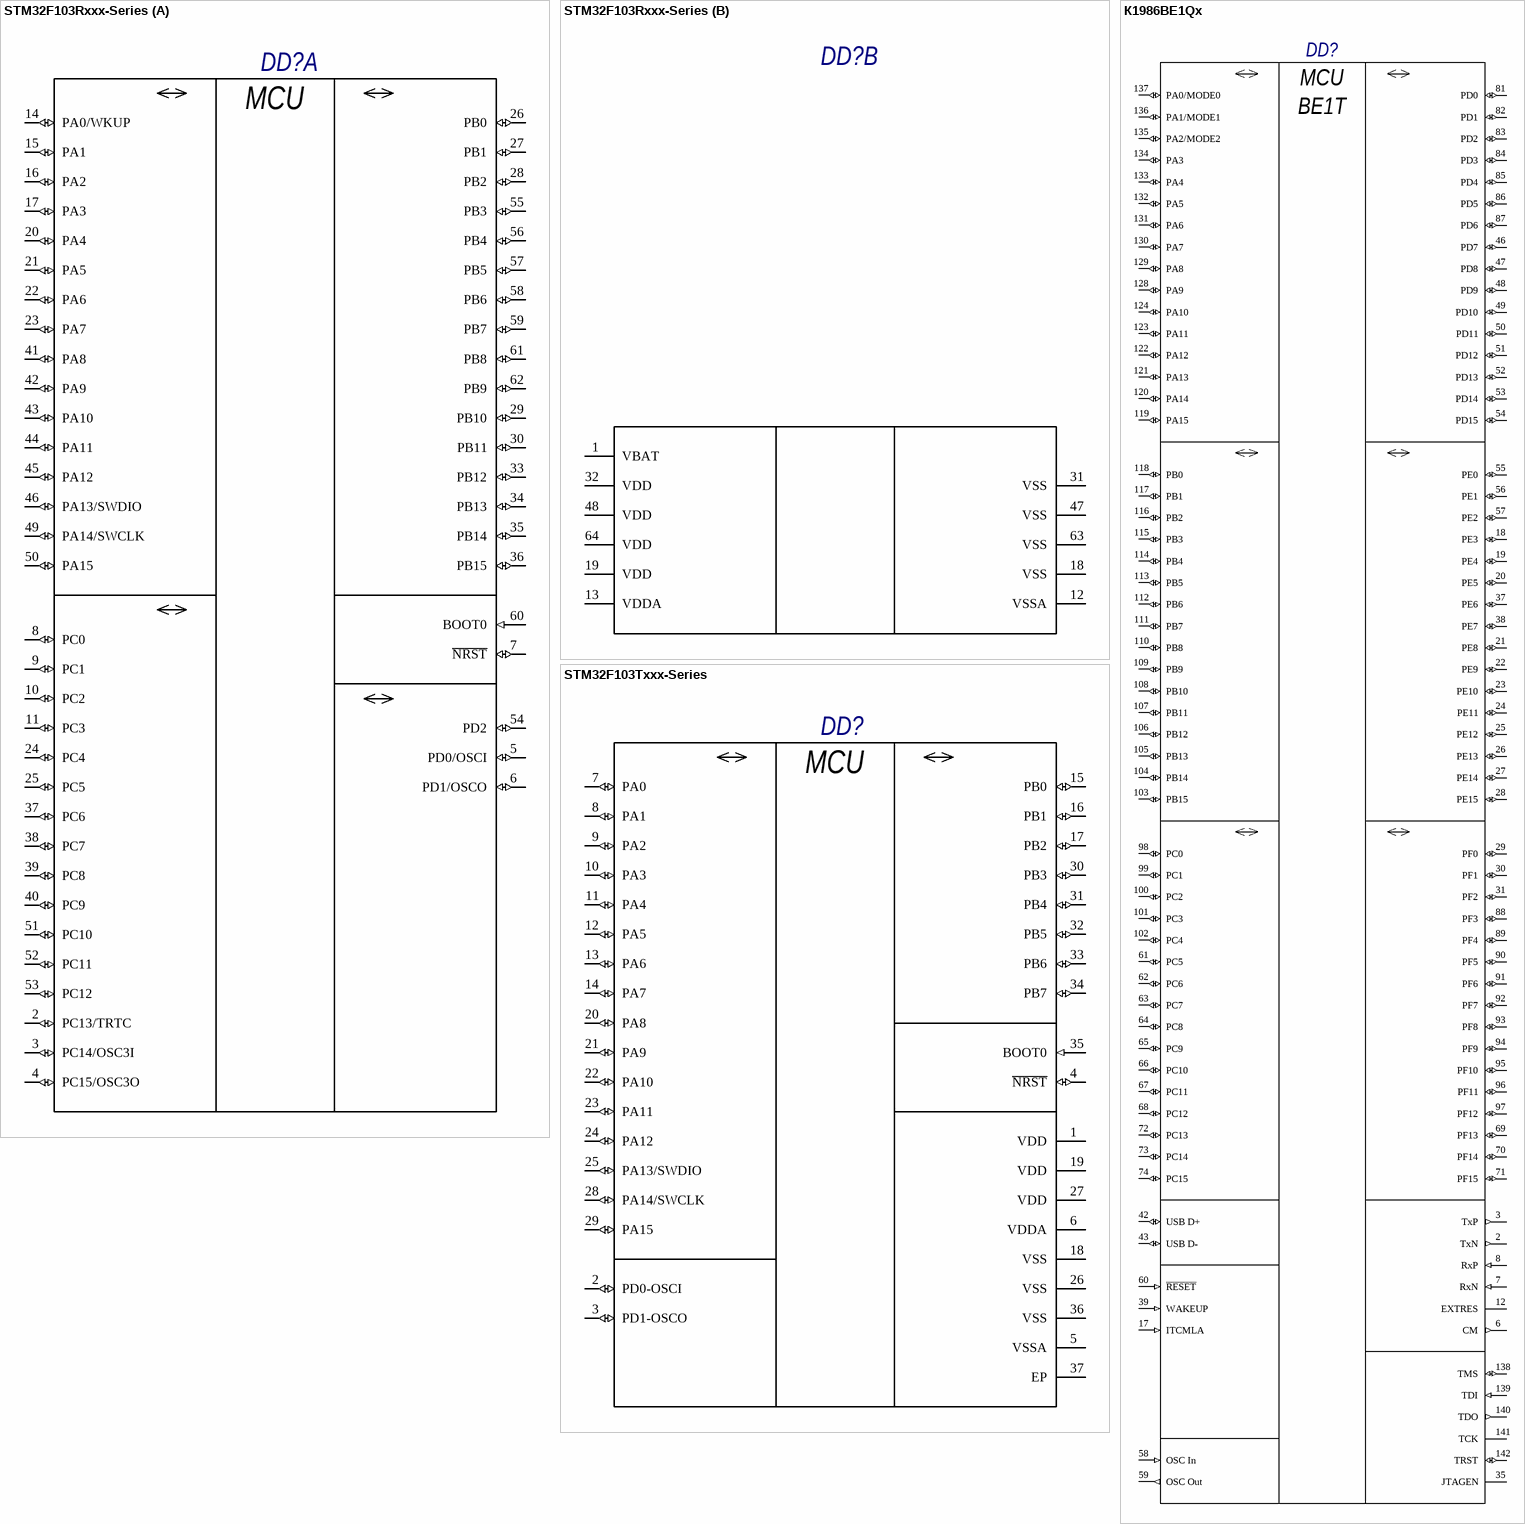
[diagram p5: symbols STM32F103Rxxx-Series to К1986ВЕ1Qx]

## STM32F103Rxxx-Series
designator DD?
Published: 21.02.2016; Publisher: Andrew Danich; Type: Микросхема
part A pins: 2 PC13/TRTC (io) "PC13-TAMPER-RTC/PC13/TAMPER-RTC", 3 PC14/OSC3I (io) "PC14-OSC32_IN/PC14/OSC32_IN", 4 PC15/OSC3O (io) "PC15-OSC32_OUT/PC15/OSC32_OUT", 5 PD0/OSCI (io) "PD0/OSC_IN", 6 PD1/OSCO (io) "PD1/OSC_OUT", 7 ~{NRST} (io) "NRST", 8 PC0 (io) "PC0/ADC12_IN10", 9 PC1 (io) "PC1/ADC12_IN11", 10 PC2 (io) "PC2/ADC12_IN12", 11 PC3 (io) "PC3/ADC12_IN13", 14 PA0/WKUP (io) "PA0-WKUP/PA0/WKUP/USART2_CTS/ADC12_IN0/TIM2_CH1_ETR", 15 PA1 (io) "PA1/USART2_RTS/ADC12_IN1/TIM2_CH2", 16 PA2 (io) "PA2/USART2_TX/ADC12_IN2/TIM2_CH3", 17 PA3 (io) "PA3/USART2_RX/ADC12_IN3/TIM2_CH4", 20 PA4 (io) "PA4/SPI1_NSS/USART2_CK/ADC12_IN4", 21 PA5 (io) "PA5/SPI1_SCK/ADC12_IN5", 22 PA6 (io) "PA6/SPI1_MISO/ADC12_IN6/TIM3_CH1/TIM1_BKIN", 23 PA7 (io) "PA7/SPI1_MOSI/ADC12_IN7/TIM3_CH2/TIM1_CH1N", 24 PC4 (io) "PC4/ADC12_IN14", 25 PC5 (io) "PC5/ADC12_IN15", 26 PB0 (io) "PB0/ADC12_IN8/TIM3_CH3/TIM1_CH2N", 27 PB1 (io) "PB1/ADC12_IN9/TIM3_CH4/TIM1_CH3N", 28 PB2 (io) "PB2/BOOT1", 29 PB10 (io) "PB10/I2C2_SCL/USART3_TX/TIM2_CH3", 30 PB11 (io) "PB11/I2C2_SDA/USART3_RX/TIM2_CH4", 33 PB12 (io) "PB12/SPI2_NSS/I2C2_SMBAl/USART3_CK/TIM1_BKIN", 34 PB13 (io) "PB13/SPI2_SCK/USART3_CTS/TIM1_CH1N", 35 PB14 (io) "PB14/SPI2_MISO/USART3_RTS/TIM1_CH2N", 36 PB15 (io) "PB15/SPI2_MOSI/TIM1_CH3N", 37 PC6 (io) "PC6/TIM3_CH1", 38 PC7 (io) "PC7/TIM3_CH2", 39 PC8 (io) "PC8/TIM3_CH3", 40 PC9 (io) "PC9/TIM3_CH4", 41 PA8 (io) "PA8/USART1_CK/TIM1_CH1/MCO", 42 PA9 (io) "PA9/USART1_TX/TIM1_CH2", 43 PA10 (io) "PA10/USART1_RX/TIM1_CH3", 44 PA11 (io) "PA11/USART1_CTS/CANRX/USBDM/TIM1_CH4", 45 PA12 (io) "PA12/USART1_RTS/CANTX/USBDP/TIM1_ETR", 46 PA13/SWDIO (io) "PA13/JTMS/SWDIO", 49 PA14/SWCLK (io) "PA14/JTCK/SWCLK", 50 PA15 (io) "PA15/JTDI/TIM2_CH1_ETR/SPI1_NSS", 51 PC10 (io) "PC10/USART3_TX", 52 PC11 (io) "PC11/USART3_RX", 53 PC12 (io) "PC12/USART3_CK", 54 PD2 (io) "PD2/TIM3_ETR", 55 PB3 (io) "PB3/JTDO/TIM2_CH2/TRACESWO/SPI1_SCK", 56 PB4 (io) "PB4/NJTRST/TIM3_CH1/SPI1_MISO", 57 PB5 (io) "PB5/I2C1_SMBAI/TIM3_CH2/SPI1_MOSI", 58 PB6 (io) "PB6/I2C1_SCL/TIM4_CH1/USART1_TX", 59 PB7 (io) "PB7/I2C1_SDA/TIM4_CH2/USART1_RX", 60 BOOT0 (in), 61 PB8 (io) "PB8/TIM4_CH3/I2C1_SCL/CANRX", 62 PB9 (io) "PB9/TIM4_CH4/I2C1_SDA/CANTX"
part B pins: 1 VBAT (power), 12 VSSA (power), 13 VDDA (power), 18 VSS (power) "VSS_4", 19 VDD (power) "VDD_4", 31 VSS (power) "VSS_1", 32 VDD (power) "VDD_1", 47 VSS (power) "VSS_2", 48 VDD (power) "VDD_2", 63 VSS (power) "VSS_3", 64 VDD (power) "VDD_3"
part A text: MCU

## STM32F103Txxx-Series
designator DD?
Published: 16.10.2015; Publisher: Andrew Danich; Type: Микросхема
pins: 1 VDD (power) "VDD_3", 2 PD0-OSCI (io) "PD0/OSC_IN/CANRX", 3 PD1-OSCO (io) "PD1/OSC_OUT/CANTX", 4 ~{NRST} (io) "NRST", 5 VSSA (power), 6 VDDA (power), 7 PA0 (io) "PA0-WKUP/PA0/WKUP/USART2_CTS/ADC12_IN0/TIM2_CH1_ETR", 8 PA1 (io) "PA1/USART2_RTS/ADC12_IN1/TIM2_CH2", 9 PA2 (io) "PA2/USART2_TX/ADC12_IN2/TIM2_CH3", 10 PA3 (io) "PA3/USART2_RX/ADC12_IN3/TIM2_CH4", 11 PA4 (io) "PA4/SPI1_NSS/USART2_CK/ADC12_IN4", 12 PA5 (io) "PA5/SPI1_SCK/ADC12_IN5", 13 PA6 (io) "PA6/SPI1_MISO/ADC12_IN6/TIM3_CH1/TIM1_BKIN", 14 PA7 (io) "PA7/SPI1_MOSI/ADC12_IN7/TIM3_CH2/TIM1_CH1N", 15 PB0 (io) "PB0/ADC12_IN8/TIM3_CH3/TIM1_CH2N", 16 PB1 (io) "PB1/ADC12_IN9/TIM3_CH4/TIM1_CH3N", 17 PB2 (io) "PB2/BOOT1", 18 VSS (power) "VSS_1", 19 VDD (power) "VDD_1", 20 PA8 (io) "PA8/USART1_CK/TIM1_CH1/MCO", 21 PA9 (io) "PA9/USART1_TX/TIM1_CH2", 22 PA10 (io) "PA10/USART1_RX/TIM1_CH3", 23 PA11 (io) "PA11/USART1_CTS/CANRX/USBDM/TIM1_CH4", 24 PA12 (io) "PA12/USART1_RTS/CANTX/USBDP/TIM1_ETR", 25 PA13/SWDIO (io) "PA13/JTMS/SWDIO", 26 VSS (power) "VSS_2", 27 VDD (power) "VDD_2", 28 PA14/SWCLK (io) "PA14/JTCK/SWCLK", 29 PA15 (io) "PA15/JTDI/TIM2_CH1_ETR/SPI1_NSS", 30 PB3 (io) "PB3/JTDO/TIM2_CH2/TRACESWO/SPI1_SCK", 31 PB4 (io) "PB4/NJTRST/TIM3_CH1/SPI1_MISO", 32 PB5 (io) "PB5/I2C1_SMBAI/TIM3_CH2/SPI1_MOSI", 33 PB6 (io) "PB6/I2C1_SCL/TIM4_CH1/USART1_TX", 34 PB7 (io) "PB7/I2C1_SDA/TIM4_CH2/USART1_RX", 35 BOOT0 (in), 36 VSS (power) "VSS_3", 37 EP (power)
text: MCU

## К1986ВЕ1Qx
designator DD?
32-разрядный контроллер для авиационного применения; Type: Микросхема; Published: 15.10.2014; Publisher: Andrew Danich
pins: 1 GND0A (power) hidden to Общ "Общий PHY", 2 TxN (out) "PHY Ethernet", 3 TxP (out) "PHY Ethernet", 4 GND1A (power) hidden to Общ "Общий PHY", 5 Vcc1A (power) hidden "Аналоговое питание PHY +3.3В", 6 CM (out) "Выход опорного напряжения приёмника", 7 RxN (in) "PHY Ethernet", 8 RxP (in) "PHY Ethernet", 10 Vcc2A (power) hidden "Аналоговое питание PHY +3.3В", 11 GND2A (power) hidden to Общ "Общий PHY", 12 EXTRES "PHY Ethernet", 13 GND3A (power) hidden to Общ "Общий PHY", 14 Vcc3A (power) hidden "Аналоговое питание PHY +3.3В", 15 GND4A (power) hidden to Общ "Общий PHY", 16 Vcc4A (power) hidden "Аналоговое питание PHY +3.3В", 17 ITCMLA (in), 18 PE3 (io), 19 PE4 (io), 20 PE5 (io), 21 PE8 (io), 22 PE9 (io), 23 PE10 (io), 24 PE11 (io), 25 PE12 (io), 26 PE13 (io), 27 PE14 (io), 28 PE15 (io), 29 PF0 (io), 30 PF1 (io), 31 PF2 (io), 32 GND (power) hidden to Общ "Общий", 33 Vcc (power) hidden to +3.3В "Питание +3.3В", 34 BVcc (power) hidden to +3.3В "Батарейное Питание", 35 JTAGEN "JTAG", 37 PE6 (io), 38 PE7 (io), 39 WAKEUP (in), 42 USB D+ (io) "USB", 43 USB D- (io) "USB", 44 AGND (power) hidden to Общ "Общий АЦП", 45 AVcc (power) hidden to +3.3В "Аналоговое питание АЦП и ЦАП", 46 PD7 (io), 47 PD8 (io), 48 PD9 (io), 49 PD10 (io), 50 PD11 (io), 51 PD12 (io), 52 PD13 (io), 53 PD14 (io), 54 PD15 (io), 55 PE0 (io), 56 PE1 (io), 57 PE2 (io), 58 OSC In (in), 59 OSC Out (out), 60 ~{RESET} (in), 61 PC5 (io), 62 PC6 (io), 63 PC7 (io), 64 PC8 (io), 65 PC9 (io), 66 PC10 (io), 67 PC11 (io), 68 PC12 (io), 69 PF13 (io), 70 PF14 (io), 71 PF15 (io), 72 PC13 (io), 73 PC14 (io), 74 PC15 (io), 75 GND (power) hidden to Общ "Общий", 76 Vcc (power) hidden to +3.3В "Питание +3.3В", 81 PD0 (io), 82 PD1 (io), 83 PD2 (io), 84 PD3 (io), 85 PD4 (io), 86 PD5 (io), 87 PD6 (io), 88 PF3 (io), 89 PF4 (io), 90 PF5 (io), 91 PF6 (io), 92 PF7 (io), 93 PF8 (io), 94 PF9 (io), 95 PF10 (io), 96 PF11 (io), 97 PF12 (io), 98 PC0 (io), 99 PC1 (io), 100 PC2 (io), 101 PC3 (io), 102 PC4 (io), 103 PB15 (io), 104 PB14 (io), 105 PB13 (io), 106 PB12 (io), 107 PB11 (io), 108 PB10 (io), 109 PB9 (io), 110 PB8 (io), 111 PB7 (io), 112 PB6 (io), 113 PB5 (io), 114 PB4 (io), 115 PB3 (io), 116 PB2 (io), 117 PB1 (io), 118 PB0 (io), 119 PA15 (io), 120 PA14 (io), 121 PA13 (io), 122 PA12 (io), 123 PA11 (io), 124 PA10 (io), 125 GND (power) hidden to Общ "Общий", 127 Vcc (power) hidden to +3.3В "Питание +3.3В", 128 PA9 (io), 129 PA8 (io), 130 PA7 (io), 131 PA6 (io), 132 PA5 (io), 133 PA4 (io), 134 PA3 (io), 135 PA2/MODE2 (io), 136 PA1/MODE1 (io), 137 PA0/MODE0 (io), 138 TMS (io) "JTAG", 139 TDI (in) "JTAG", 140 TDO (out) "JTAG", 141 TCK "JTAG", 142 TRST (io) "JTAG"
text: MCU; ВЕ1Т

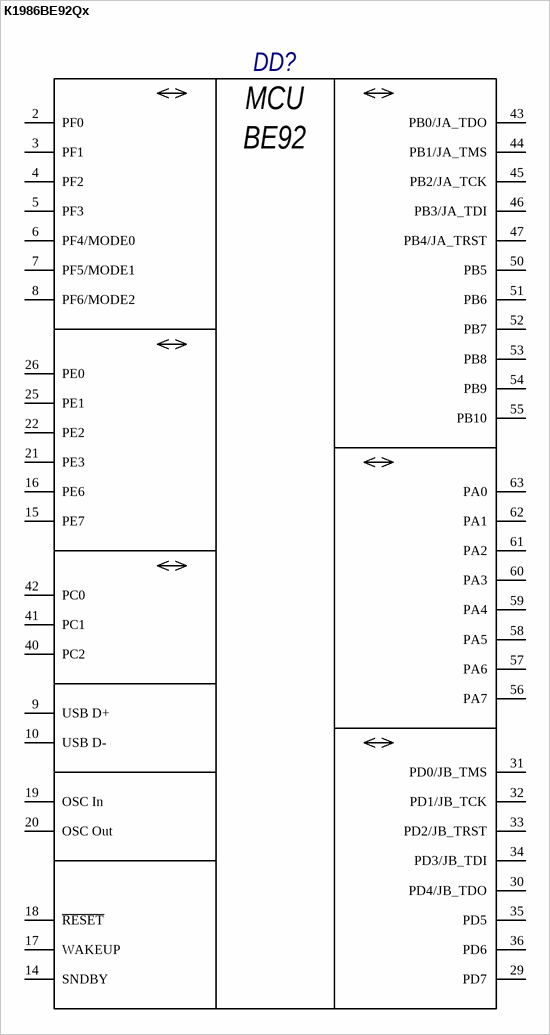
[diagram p6: symbol К1986ВЕ92Qx]

## К1986ВЕ92Qx
designator DD?
32-разрядный RISC микроконтроллер; Type: Микросхема; Published: 06.12.2013; Publisher: Andrew Danich
pins: 1 Vcc (power) hidden to +3.3В "Питание", 2 PF0, 3 PF1, 4 PF2, 5 PF3, 6 PF4/MODE0, 7 PF5/MODE1, 8 PF6/MODE2, 9 USB D+, 10 USB D-, 11 GND (power) hidden to Общ "Общий", 12 Vcc (power) hidden to +3.3В "Питание", 13 BVcc (power) hidden to +3.3В "Батарейное Питание", 14 SNDBY, 15 PE7, 16 PE6, 17 WAKEUP, 18 ~{RESET}, 19 OSC In, 20 OSC Out, 21 PE3, 22 PE2, 23 AGND1 (power) hidden to Общ "Общий АЦП", 24 AVcc (power) hidden to +3.3В "Аналоговое питание АЦП и ЦАП", 25 PE1, 26 PE0, 27 AGND (power) hidden to Общ "Общий АЦП", 28 AVcc1 (power) hidden to +3.3В "Аналоговое питание АЦП и ЦАП", 29 PD7, 30 PD4/JB_TDO, 31 PD0/JB_TMS, 32 PD1/JB_TCK, 33 PD2/JB_TRST, 34 PD3/JB_TDI, 35 PD5, 36 PD6, 38 Vcc (power) hidden to +3.3В "Питание", 39 GND (power) hidden to Общ "Общий", 40 PC2, 41 PC1, 42 PC0, 43 PB0/JA_TDO, 44 PB1/JA_TMS, 45 PB2/JA_TCK, 46 PB3/JA_TDI, 47 PB4/JA_TRST, 48 Vcc (power) hidden to +3.3В "Питание", 49 GND (power) hidden to Общ "Общий", 50 PB5, 51 PB6, 52 PB7, 53 PB8, 54 PB9, 55 PB10, 56 PA7, 57 PA6, 58 PA5, 59 PA4, 60 PA3, 61 PA2, 62 PA1, 63 PA0, 64 GND (power) hidden to Общ "Общий"
text: MCU; ВЕ92